# Altium footprint library R_THT.PcbLib: 8 footprints
Each footprint in its own frame and in the unit in brackets; x right, y up, seen from the top. Pads: shape width x height; smd on the part's side, far side on the other; paste and mask are expansions set on the pad; w line width, h text height; cw(c..) or ccw(c..) is an arc to the next point about the centre after c.
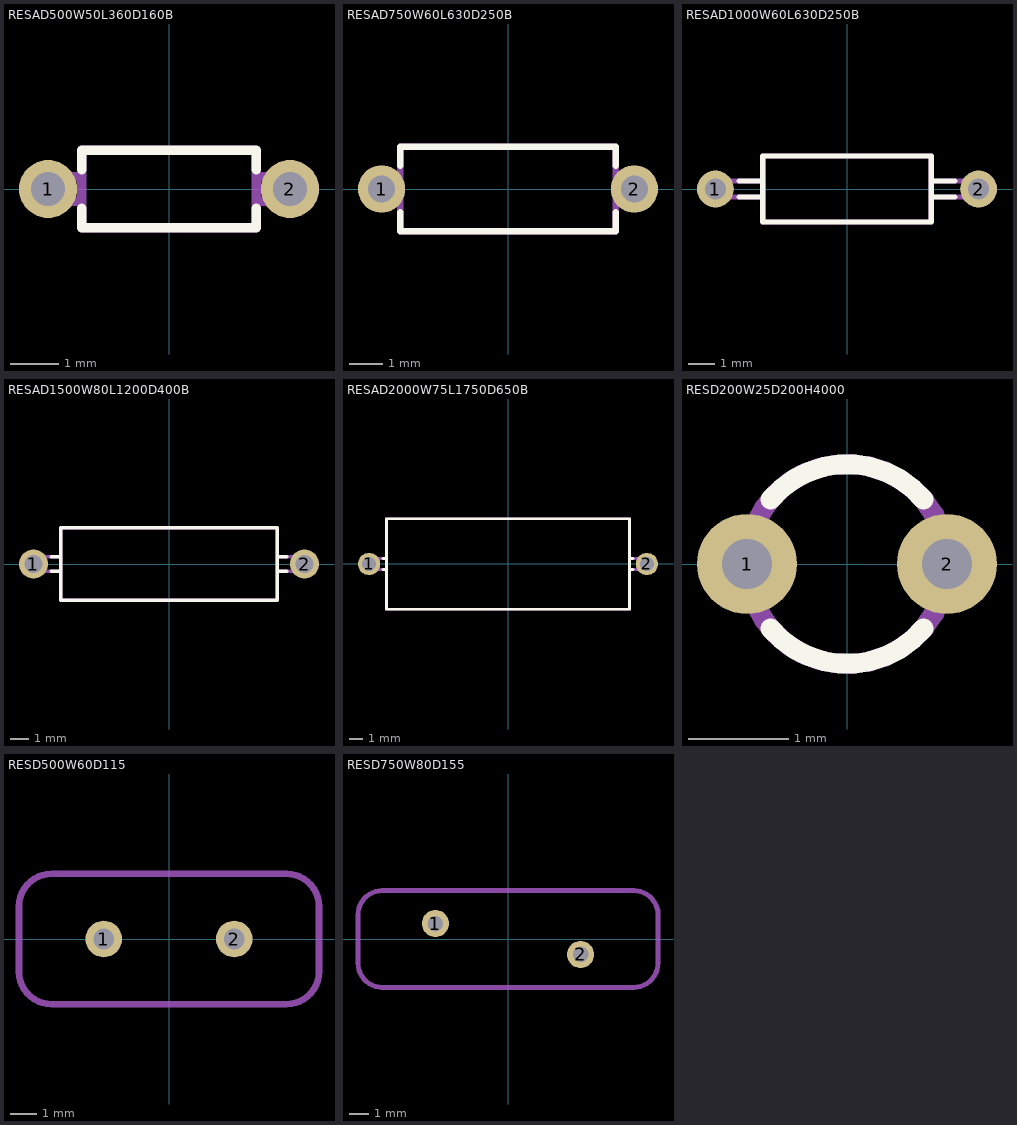
[diagram p0: the footprints below, top view; thin cyan lines are the x and y axes]

## RESAD500W50L360D160B [mm]
pads (2):
  round 1.2 hole 0.7: 1(-2.5,0) 2(2.5,0)
Top Overlay:
  lines w0.2: -1.8,-0.4 -1.8,-0.8 1.8,-0.8 1.8,-0.4 ; -1.8,0.4 -1.8,0.8 1.8,0.8 1.8,0.4
Top Assembly:
  lines w0.2: -1.8,-0.25 -2.5,-0.25 cw(c-2.5,0) -2.75,0 cw(c-2.5,0) -2.5,0.25 -1.8,0.25 ; 1.8,-0.25 2.5,-0.25 ccw(c2.5,0) 2.75,0 ccw(c2.5,0) 2.5,0.25 1.8,0.25 ; -1.8,-0.8 -1.8,0.8 1.8,0.8 1.8,-0.8 -1.8,-0.8
3D body: height 1.05, standoff 0.55, extent -2.5,-0.25 -1.8,0.25
3D body: height 1.05, standoff 0.55, extent -2.75,-0.25 -2.25,0.25
3D body: height 0.8, standoff -3, extent -2.75,-0.25 -2.25,0.25
3D body: height 1.05, standoff 0.55, extent 1.8,-0.25 2.5,0.25
3D body: height 1.05, standoff 0.55, extent 2.25,-0.25 2.75,0.25
3D body: height 0.8, standoff -3, extent 2.25,-0.25 2.75,0.25
3D body: height 1.6, standoff 0, extent -1.8,-0.8 1.8,0.8
3D body: height 1.61, standoff -0.01, extent -1.4,-0.81 -1.1,0.81
3D body: height 1.61, standoff -0.01, extent -0.8,-0.81 -0.5,0.81
3D body: height 1.61, standoff -0.01, extent -0.2,-0.81 0.1,0.81
3D body: height 1.61, standoff -0.01, extent 0.4,-0.81 0.7,0.81
3D body: height 1.61, standoff -0.01, extent 1,-0.81 1.5,0.81

## RESAD750W60L630D250B [mm]
pads (2):
  round 1.4 hole 0.8: 1(-3.75,0) 2(3.75,0)
Top Overlay:
  lines w0.2: -3.2,-0.7 -3.2,-1.25 3.2,-1.25 3.2,-0.7 ; -3.2,0.7 -3.2,1.25 3.2,1.25 3.2,0.7
Top Assembly:
  lines w0.2: -3.2,-0.3 -3.75,-0.3 cw(c-3.75,0) -4.05,0 cw(c-3.75,0) -3.75,0.3 -3.2,0.3 ; 3.2,-0.3 3.75,-0.3 ccw(c3.75,0) 4.05,0 ccw(c3.75,0) 3.75,0.3 3.2,0.3 ; -3.2,-1.25 -3.2,1.25 3.2,1.25 3.2,-1.25 -3.2,-1.25
3D body: height 1.55, standoff 0.95, extent -3.75,-0.3 -3.15,0.3
3D body: height 1.55, standoff 0.95, extent -4.05,-0.3 -3.45,0.3
3D body: height 1.25, standoff -3, extent -4.05,-0.3 -3.45,0.3
3D body: height 1.55, standoff 0.95, extent 3.15,-0.3 3.75,0.3
3D body: height 1.55, standoff 0.95, extent 3.45,-0.3 4.05,0.3
3D body: height 1.25, standoff -3, extent 3.45,-0.3 4.05,0.3
3D body: height 2.5, standoff 0, extent -3.15,-1.25 3.15,1.25
3D body: height 2.51, standoff -0.01, extent -2.3,-1.26 -1.8,1.26
3D body: height 2.51, standoff -0.01, extent -1.3,-1.26 -0.8,1.26
3D body: height 2.51, standoff -0.01, extent -0.3,-1.26 0.2,1.26
3D body: height 2.51, standoff -0.01, extent 0.7,-1.26 1.2,1.26
3D body: height 2.51, standoff -0.01, extent 1.7,-1.26 2.45,1.26

## RESAD1000W60L630D250B [mm]
pads (2):
  round 1.4 hole 0.8: 1(-5,0) 2(5,0)
Top Overlay:
  lines w0.2: -4.1,-0.3 -3.2,-0.3 ; -4.1,0.3 -3.2,0.3 ; 3.2,-0.3 4.1,-0.3 ; 3.2,0.3 4.1,0.3 ; -3.2,-1.25 3.2,-1.25 3.2,1.25 -3.2,1.25 -3.2,-1.25
Top Assembly:
  lines w0.2: -3.2,-0.3 -5,-0.3 cw(c-5,0) -5.3,0 cw(c-5,0) -5,0.3 -3.2,0.3 ; 3.2,-0.3 5,-0.3 ccw(c5,0) 5.3,0 ccw(c5,0) 5,0.3 3.2,0.3 ; -3.2,-1.25 3.2,-1.25 3.2,1.25 -3.2,1.25 -3.2,-1.25
3D body: height 1.25, standoff -3, extent 4.7,-0.3 5.3,0.3
3D body: height 1.55, standoff 0.95, extent 4.7,-0.3 5.3,0.3
3D body: height 1.55, standoff 0.95, extent 3.15,-0.3 5,0.3
3D body: height 1.25, standoff -3, extent -5.3,-0.3 -4.7,0.3
3D body: height 1.55, standoff 0.95, extent -5.3,-0.3 -4.7,0.3
3D body: height 1.55, standoff 0.95, extent -5,-0.3 -3.15,0.3
3D body: height 2.5, standoff 0, extent -3.15,-1.25 3.15,1.25
3D body: height 2.51, standoff -0.01, extent -2.3,-1.26 -1.8,1.26
3D body: height 2.51, standoff -0.01, extent -1.3,-1.26 -0.8,1.26
3D body: height 2.51, standoff -0.01, extent -0.3,-1.26 0.2,1.26
3D body: height 2.51, standoff -0.01, extent 0.7,-1.26 1.2,1.26
3D body: height 2.51, standoff -0.01, extent 1.7,-1.26 2.45,1.26

## RESAD1500W80L1200D400B [mm]
pads (2):
  round 1.6 hole 1: 1(-7.5,0) 2(7.5,0)
Top Overlay:
  lines w0.2: -6.5,-0.4 -6,-0.4 ; -6.5,0.4 -6,0.4 ; 6,-0.4 6.5,-0.4 ; 6,0.4 6.5,0.4 ; -6,-2 -6,2 6,2 6,-2 -6,-2
Top Assembly:
  lines w0.2: -6,-0.4 -7.5,-0.4 cw(c-7.5,0) -7.9,0 cw(c-7.5,0) -7.5,0.4 -6,0.4 ; 6,-0.4 7.5,-0.4 ccw(c7.5,0) 7.9,0 ccw(c7.5,0) 7.5,0.4 6,0.4 ; -6,-2 -6,2 6,2 6,-2 -6,-2
3D body: height 4.01, standoff -0.01, extent 3.5,-2.01 5,2.01
3D body: height 4.01, standoff -0.01, extent 1.5,-2.01 2.5,2.01
3D body: height 4.01, standoff -0.01, extent -0.5,-2.01 0.5,2.01
3D body: height 4.01, standoff -0.01, extent -2.5,-2.01 -1.5,2.01
3D body: height 4.01, standoff -0.01, extent -4.5,-2.01 -3.5,2.01
3D body: height 2.4, standoff 1.6, extent -7.5,-0.4 -6,0.4
3D body: height 2.4, standoff 1.6, extent -7.9,-0.4 -7.1,0.4
3D body: height 2, standoff -3, extent -7.9,-0.4 -7.1,0.4
3D body: height 2.4, standoff 1.6, extent 6,-0.4 7.5,0.4
3D body: height 2.4, standoff 1.6, extent 7.1,-0.4 7.9,0.4
3D body: height 2, standoff -3, extent 7.1,-0.4 7.9,0.4
3D body: height 4, standoff 0, extent -6,-2 6,2

## RESAD2000W75L1750D650B [mm]
pads (2):
  round 1.6 hole 1: 1(-10,0) 2(10,0)
Top Overlay:
  lines w0.2: -9,-0.4 -8.75,-0.4 ; -9,0.4 -8.75,0.4 ; 8.75,-0.4 9,-0.4 ; 8.75,0.4 9,0.4 ; -8.75,-3.25 -8.75,3.25 8.75,3.25 8.75,-3.25 -8.75,-3.25
Top Assembly:
  lines w0.2: -8.75,-0.4 -10,-0.4 cw(c-10,0) -10.4,0 cw(c-10,0) -10,0.4 -8.75,0.4 ; 8.75,-0.4 10,-0.4 ccw(c10,0) 10.4,0 ccw(c10,0) 10,0.4 8.75,0.4 ; -8.75,-3.25 -8.75,3.25 8.75,3.25 8.75,-3.25 -8.75,-3.25
3D body: height 6.5, standoff 0, extent -8.75,-3.25 8.75,3.25
3D body: height 6.51, standoff -0.01, extent 5.5,-3.26 7.5,3.26
3D body: height 6.51, standoff -0.01, extent 2.5,-3.26 4,3.26
3D body: height 6.51, standoff -0.01, extent -0.75,-3.26 0.75,3.26
3D body: height 6.51, standoff -0.01, extent -3.5,-3.26 -2,3.26
3D body: height 6.51, standoff -0.01, extent -6.5,-3.26 -5,3.26
3D body: height 3.63, standoff 2.88, extent -10,-0.375 -8.5,0.375
3D body: height 3.63, standoff 2.88, extent -10.375,-0.375 -9.625,0.375
3D body: height 3.25, standoff -3, extent -10.375,-0.375 -9.625,0.375
3D body: height 3.63, standoff 2.88, extent 8.5,-0.375 10,0.375
3D body: height 3.63, standoff 2.88, extent 9.625,-0.375 10.375,0.375
3D body: height 3.25, standoff -3, extent 9.625,-0.375 10.375,0.375

## RESD200W25D200H4000 [mm]
pads (2):
  round 1 hole 0.5: 1(-1,0) 2(1,0)
Top Overlay:
  lines w0.2: -0.766,-0.643 ccw(c0,0) 0.766,-0.643 ; -0.766,0.643 cw(c0,0) 0.766,0.643
Top Assembly:
  circle w0.2: c0,0 r1
3D body: height 0, standoff -3, extent 0.875,-0.125 1.125,0.125
3D body: height 0, standoff -3, extent -1.125,-0.125 -0.875,0.125
3D body: height 39, standoff 36, extent -1,-1 1,1
3D body: height 37, standoff 35, extent -1,-1 1,1
3D body: height 40, standoff 38, extent -1,-1 1,1
3D body: height 36, standoff 0, extent 0.222,-0.15 1.15,0.15
3D body: height 36, standoff 0, extent -1.15,-0.15 -0.222,0.15

## RESD500W60D115 [mm]
height 18
pads (2):
  round 1.4 hole 0.8: 1(-2.5,0) 2(2.5,0)
Top Assembly:
  lines w0.254: -5.75,-1.25 ccw(c-4.5,-1.25) -4.5,-2.5 4.5,-2.5 ccw(c4.5,-1.25) 5.75,-1.25 5.75,0 5.75,1.25 ccw(c4.5,1.25) 4.5,2.5 3.5,2.5 -4.5,2.5 ccw(c-4.5,1.25) -5.75,1.25 -5.75,-1.25
3D body "RESD500W60D115.stp": height 16, standoff -23.59, extent -5.721,-2.5 5.779,2.5

## RESD750W80D155 [mm]
height 18
pads (2):
  round 1.4 hole 0.8: 1(-3.75,0.8) 2(3.75,-0.8)
Top Assembly:
  lines w0.254: -7.75,-1.25 ccw(c-6.5,-1.25) -6.5,-2.5 6.5,-2.5 ccw(c6.5,-1.25) 7.75,-1.25 7.75,1.5 7.75,1.25 ccw(c6.5,1.25) 6.5,2.5 -6.5,2.5 ccw(c-6.5,1.25) -7.75,1.25 -7.75,-1.25
3D body "RESD750W80D155.stp": height 18.5, standoff -20, extent -7.718,-2.45 7.779,2.45